# Altium schematic symbol library 1551920-2.SchLib: 1 symbol
Pins are listed as number, name and electrical type; pins without a type are passive.

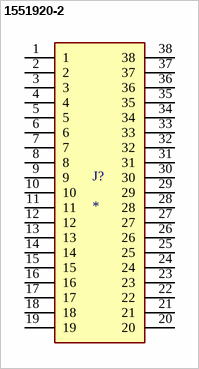
[diagram p0: symbol 1551920-2]

## 1551920-2
designator J?
38 Position Receptacle Surface Mount Right Angle ZQSFP+ Connector; MF: TE Connectivity; Number_of_Positions: 38; Centerline_Pitch: .8 mm[.0315 in]; MP: 1551920-2; Package: None; Check_prices: https://www.snapeda.com/parts/1551920-2/TE+Connectivity+AMP+Connectors/view-part/?ref=eda; Product_Type: Connector; Value: *; Price: None; Purchase-URL: https://pricing.snapeda.com/search/part/1551920-2/?ref=eda; SnapEDA_Link: https://www.snapeda.com/parts/1551920-2/TE+Connectivity+AMP+Connectors/view-part/?ref=snap; Availability: In Stock
footprint TE_1551920-2
pins: 1, 2, 3, 4, 5, 6, 7, 8, 9, 10, 11, 12, 13, 14, 15, 16, 17, 18, 19, 20, 21, 22, 23, 24, 25, 26, 27, 28, 29, 30, 31, 32, 33, 34, 35, 36, 37, 38